# Altium schematic symbol library kmilo17pet-NSC_MiscPower.SchLib: 1552 symbols (part 15 of 43)
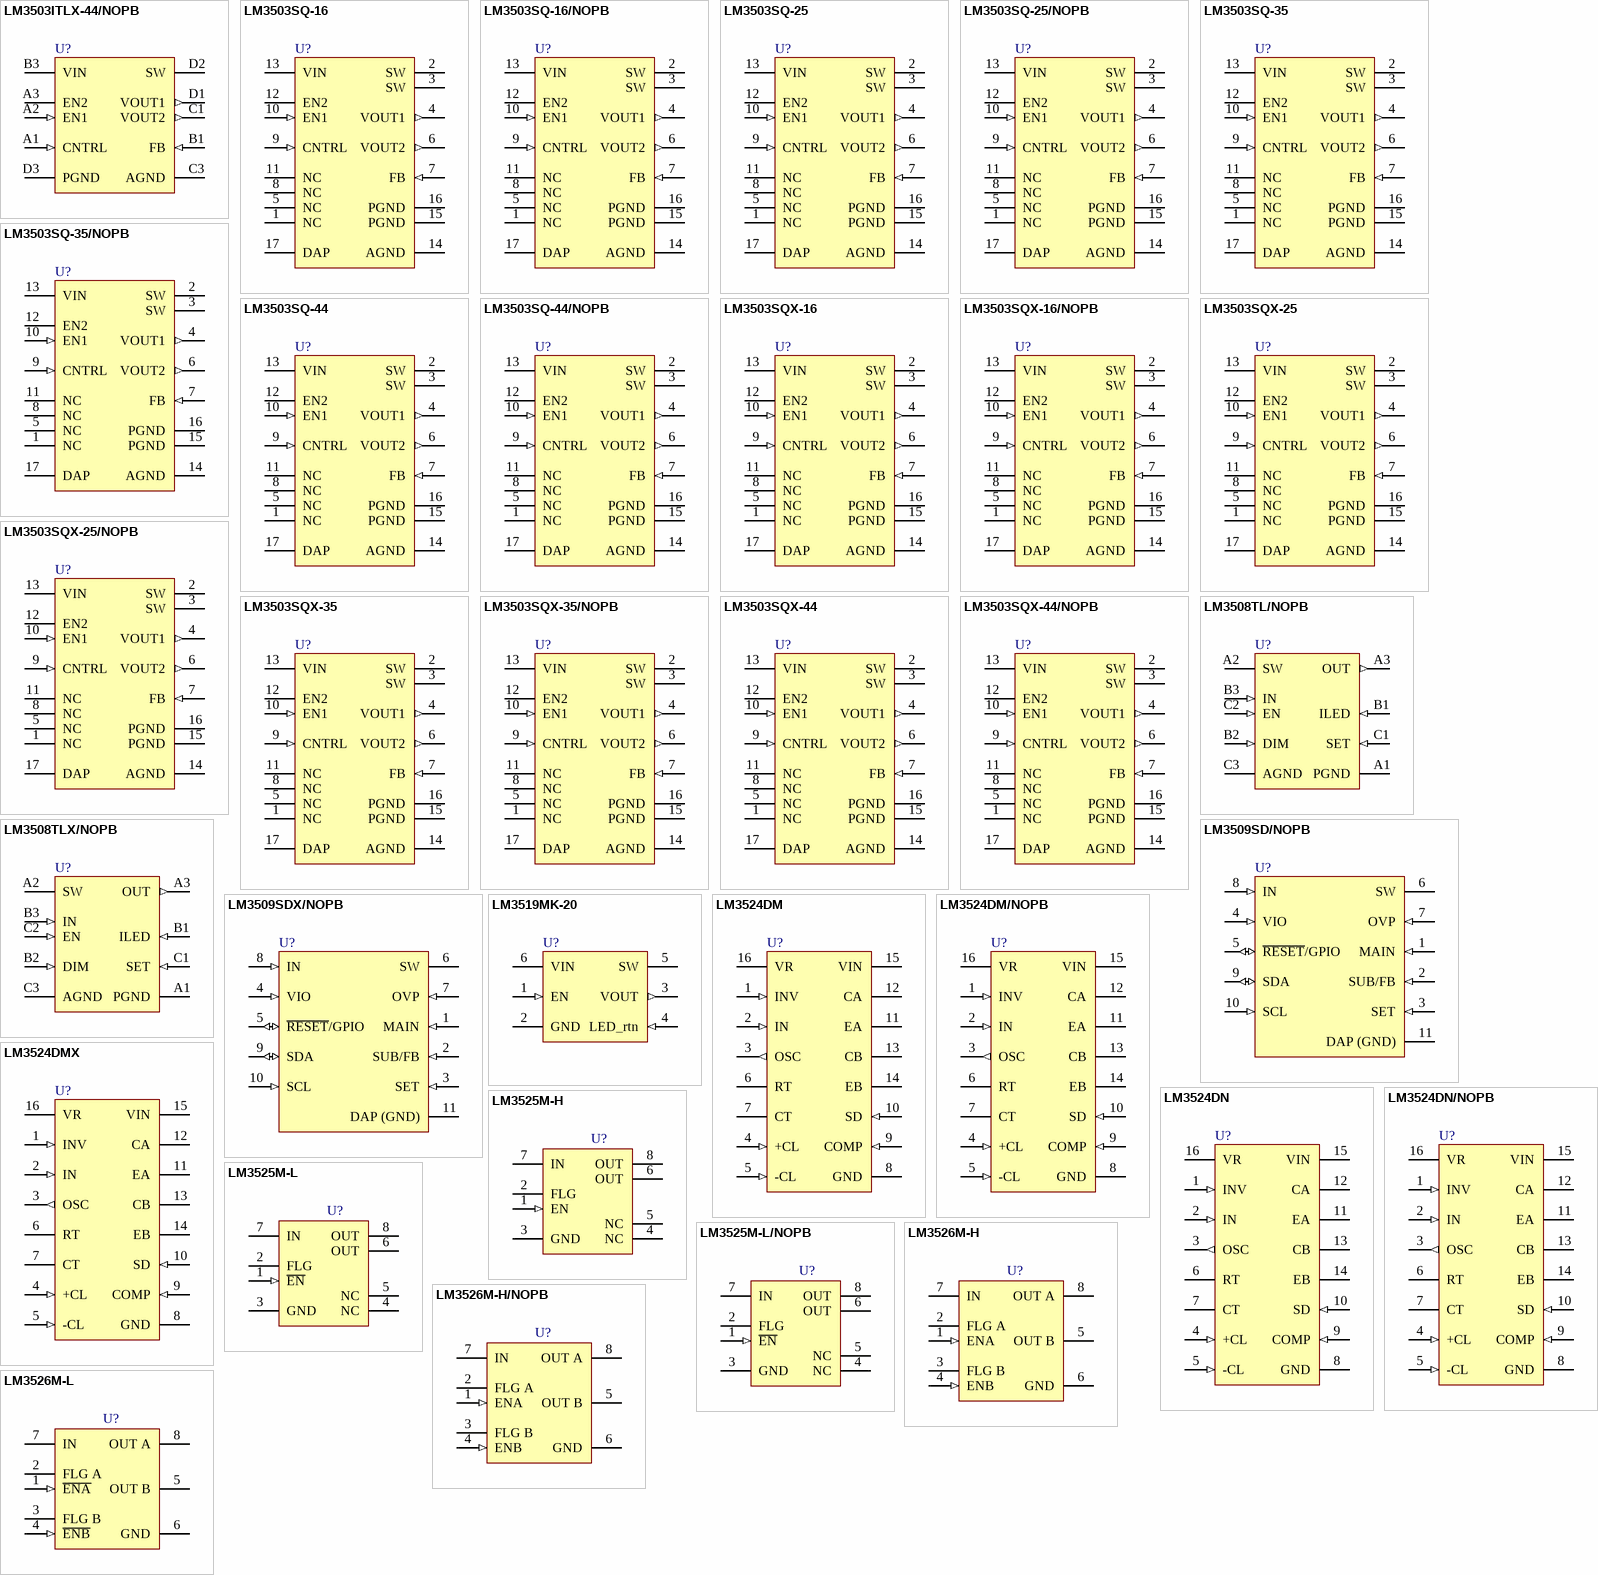
[diagram p71: symbols LM3503ITLX-44/NOPB to LM3526M-L]

## LM3503SQ-35/NOPB
designator U?
Dual-Display Constant Current LED Driver with Analog Brightness Control, 16-pin LLP, Pb-Free; PartNumber: LM3503SQ-35/NOPB; Manufacturer: National Semiconductor; PackageTopMarking: NS*UZXYTT*L00047B; PowerWise: Y; CompType: MiscPower; DatasheetVersion: Aug-2006; PackageVersion: revA, Oct-2003; PackageReference: SQA16A; PackageDescription: LLP, Plastic, Quad, 4 x 4 x 0.8mm Body, 16 Lead, 0.5mm Pitch, No Pullback; RoHS: Y; PinCount: 16; High-Reliability: Y; ComponentLink1Description: Manufacturer URL; ComponentLink1URL: http://www.national.com/; ComponentLink2Description: LM3503 Datasheet; ComponentLink2URL: http://www.national.com/ds/LM/LM3503.pdf; ComponentLink3Description: LM3503 Web Page; ComponentLink3URL: http://www.national.com/pf/LM/LM3503.html; ComponentLink4Description: SQA16A Package Page; ComponentLink4URL: http://www.national.com/packaging/folders/sqa16a.html
footprint SQA16A (QFN, 16-Leads, Body 4x4mm, Pitch 0.5mm, Thermal Pad 2.7x2.7mm, NSC Recommended)
pins: 1 NC, 2 SW (power), 3 SW (power), 4 VOUT1 (out), 5 NC, 6 VOUT2 (out), 7 FB (in), 8 NC, 9 CNTRL (in), 10 EN1 (in), 11 NC, 12 EN2, 13 VIN (power), 14 AGND (power), 15 PGND (power), 16 PGND (power), 17 DAP (power)

## LM3503SQ-44
designator U?
Dual-Display Constant Current LED Driver with Analog Brightness Control, 16-pin LLP; PartNumber: LM3503SQ-44; Manufacturer: National Semiconductor; PackageTopMarking: NS*UZXYTT*L00053B; PowerWise: Y; CompType: MiscPower; DatasheetVersion: Aug-2006; PackageVersion: revA, Oct-2003; PackageReference: SQA16A; PackageDescription: LLP, Plastic, Quad, 4 x 4 x 0.8mm Body, 16 Lead, 0.5mm Pitch, No Pullback; RoHS: N; PinCount: 16; High-Reliability: Y; ComponentLink1Description: Manufacturer URL; ComponentLink1URL: http://www.national.com/; ComponentLink2Description: LM3503 Datasheet; ComponentLink2URL: http://www.national.com/ds/LM/LM3503.pdf; ComponentLink3Description: LM3503 Web Page; ComponentLink3URL: http://www.national.com/pf/LM/LM3503.html; ComponentLink4Description: SQA16A Package Page; ComponentLink4URL: http://www.national.com/packaging/folders/sqa16a.html
footprint SQA16A (QFN, 16-Leads, Body 4x4mm, Pitch 0.5mm, Thermal Pad 2.7x2.7mm, NSC Recommended)
pins: 1 NC, 2 SW (power), 3 SW (power), 4 VOUT1 (out), 5 NC, 6 VOUT2 (out), 7 FB (in), 8 NC, 9 CNTRL (in), 10 EN1 (in), 11 NC, 12 EN2, 13 VIN (power), 14 AGND (power), 15 PGND (power), 16 PGND (power), 17 DAP (power)

## LM3503SQ-44/NOPB
designator U?
Dual-Display Constant Current LED Driver with Analog Brightness Control, 16-pin LLP, Pb-Free; PartNumber: LM3503SQ-44/NOPB; Manufacturer: National Semiconductor; PackageTopMarking: NS*UZXYTT*L00053B; PowerWise: Y; CompType: MiscPower; DatasheetVersion: Aug-2006; PackageVersion: revA, Oct-2003; PackageReference: SQA16A; PackageDescription: LLP, Plastic, Quad, 4 x 4 x 0.8mm Body, 16 Lead, 0.5mm Pitch, No Pullback; RoHS: Y; PinCount: 16; High-Reliability: Y; ComponentLink1Description: Manufacturer URL; ComponentLink1URL: http://www.national.com/; ComponentLink2Description: LM3503 Datasheet; ComponentLink2URL: http://www.national.com/ds/LM/LM3503.pdf; ComponentLink3Description: LM3503 Web Page; ComponentLink3URL: http://www.national.com/pf/LM/LM3503.html; ComponentLink4Description: SQA16A Package Page; ComponentLink4URL: http://www.national.com/packaging/folders/sqa16a.html
footprint SQA16A (QFN, 16-Leads, Body 4x4mm, Pitch 0.5mm, Thermal Pad 2.7x2.7mm, NSC Recommended)
pins: 1 NC, 2 SW (power), 3 SW (power), 4 VOUT1 (out), 5 NC, 6 VOUT2 (out), 7 FB (in), 8 NC, 9 CNTRL (in), 10 EN1 (in), 11 NC, 12 EN2, 13 VIN (power), 14 AGND (power), 15 PGND (power), 16 PGND (power), 17 DAP (power)

## LM3503SQX-16
designator U?
Dual-Display Constant Current LED Driver with Analog Brightness Control, 16-pin LLP; PartNumber: LM3503SQX-16; Manufacturer: National Semiconductor; PackageTopMarking: NS*UZXYTT*L00045B; PowerWise: Y; CompType: MiscPower; DatasheetVersion: Aug-2006; PackageVersion: revA, Oct-2003; PackageReference: SQA16A; PackageDescription: LLP, Plastic, Quad, 4 x 4 x 0.8mm Body, 16 Lead, 0.5mm Pitch, No Pullback; RoHS: N; PinCount: 16; High-Reliability: Y; ComponentLink1Description: Manufacturer URL; ComponentLink1URL: http://www.national.com/; ComponentLink2Description: LM3503 Datasheet; ComponentLink2URL: http://www.national.com/ds/LM/LM3503.pdf; ComponentLink3Description: LM3503 Web Page; ComponentLink3URL: http://www.national.com/pf/LM/LM3503.html; ComponentLink4Description: SQA16A Package Page; ComponentLink4URL: http://www.national.com/packaging/folders/sqa16a.html
footprint SQA16A (QFN, 16-Leads, Body 4x4mm, Pitch 0.5mm, Thermal Pad 2.7x2.7mm, NSC Recommended)
pins: 1 NC, 2 SW (power), 3 SW (power), 4 VOUT1 (out), 5 NC, 6 VOUT2 (out), 7 FB (in), 8 NC, 9 CNTRL (in), 10 EN1 (in), 11 NC, 12 EN2, 13 VIN (power), 14 AGND (power), 15 PGND (power), 16 PGND (power), 17 DAP (power)

## LM3503SQX-16/NOPB
designator U?
Dual-Display Constant Current LED Driver with Analog Brightness Control, 16-pin LLP, Pb-Free; PartNumber: LM3503SQX-16/NOPB; Manufacturer: National Semiconductor; PackageTopMarking: NS*UZXYTT*L00045B; PowerWise: Y; CompType: MiscPower; DatasheetVersion: Aug-2006; PackageVersion: revA, Oct-2003; PackageReference: SQA16A; PackageDescription: LLP, Plastic, Quad, 4 x 4 x 0.8mm Body, 16 Lead, 0.5mm Pitch, No Pullback; RoHS: Y; PinCount: 16; High-Reliability: Y; ComponentLink1Description: Manufacturer URL; ComponentLink1URL: http://www.national.com/; ComponentLink2Description: LM3503 Datasheet; ComponentLink2URL: http://www.national.com/ds/LM/LM3503.pdf; ComponentLink3Description: LM3503 Web Page; ComponentLink3URL: http://www.national.com/pf/LM/LM3503.html; ComponentLink4Description: SQA16A Package Page; ComponentLink4URL: http://www.national.com/packaging/folders/sqa16a.html
footprint SQA16A (QFN, 16-Leads, Body 4x4mm, Pitch 0.5mm, Thermal Pad 2.7x2.7mm, NSC Recommended)
pins: 1 NC, 2 SW (power), 3 SW (power), 4 VOUT1 (out), 5 NC, 6 VOUT2 (out), 7 FB (in), 8 NC, 9 CNTRL (in), 10 EN1 (in), 11 NC, 12 EN2, 13 VIN (power), 14 AGND (power), 15 PGND (power), 16 PGND (power), 17 DAP (power)

## LM3503SQX-25
designator U?
Dual-Display Constant Current LED Driver with Analog Brightness Control, 16-pin LLP; PartNumber: LM3503SQX-25; Manufacturer: National Semiconductor; PackageTopMarking: NS*UZXYTT*L00046B; PowerWise: Y; CompType: MiscPower; DatasheetVersion: Aug-2006; PackageVersion: revA, Oct-2003; PackageReference: SQA16A; PackageDescription: LLP, Plastic, Quad, 4 x 4 x 0.8mm Body, 16 Lead, 0.5mm Pitch, No Pullback; RoHS: N; PinCount: 16; High-Reliability: Y; ComponentLink1Description: Manufacturer URL; ComponentLink1URL: http://www.national.com/; ComponentLink2Description: LM3503 Datasheet; ComponentLink2URL: http://www.national.com/ds/LM/LM3503.pdf; ComponentLink3Description: LM3503 Web Page; ComponentLink3URL: http://www.national.com/pf/LM/LM3503.html; ComponentLink4Description: SQA16A Package Page; ComponentLink4URL: http://www.national.com/packaging/folders/sqa16a.html
footprint SQA16A (QFN, 16-Leads, Body 4x4mm, Pitch 0.5mm, Thermal Pad 2.7x2.7mm, NSC Recommended)
pins: 1 NC, 2 SW (power), 3 SW (power), 4 VOUT1 (out), 5 NC, 6 VOUT2 (out), 7 FB (in), 8 NC, 9 CNTRL (in), 10 EN1 (in), 11 NC, 12 EN2, 13 VIN (power), 14 AGND (power), 15 PGND (power), 16 PGND (power), 17 DAP (power)

## LM3503SQX-25/NOPB
designator U?
Dual-Display Constant Current LED Driver with Analog Brightness Control, 16-pin LLP, Pb-Free; PartNumber: LM3503SQX-25/NOPB; Manufacturer: National Semiconductor; PackageTopMarking: NS*UZXYTT*L00046B; PowerWise: Y; CompType: MiscPower; DatasheetVersion: Aug-2006; PackageVersion: revA, Oct-2003; PackageReference: SQA16A; PackageDescription: LLP, Plastic, Quad, 4 x 4 x 0.8mm Body, 16 Lead, 0.5mm Pitch, No Pullback; RoHS: Y; PinCount: 16; High-Reliability: Y; ComponentLink1Description: Manufacturer URL; ComponentLink1URL: http://www.national.com/; ComponentLink2Description: LM3503 Datasheet; ComponentLink2URL: http://www.national.com/ds/LM/LM3503.pdf; ComponentLink3Description: LM3503 Web Page; ComponentLink3URL: http://www.national.com/pf/LM/LM3503.html; ComponentLink4Description: SQA16A Package Page; ComponentLink4URL: http://www.national.com/packaging/folders/sqa16a.html
footprint SQA16A (QFN, 16-Leads, Body 4x4mm, Pitch 0.5mm, Thermal Pad 2.7x2.7mm, NSC Recommended)
pins: 1 NC, 2 SW (power), 3 SW (power), 4 VOUT1 (out), 5 NC, 6 VOUT2 (out), 7 FB (in), 8 NC, 9 CNTRL (in), 10 EN1 (in), 11 NC, 12 EN2, 13 VIN (power), 14 AGND (power), 15 PGND (power), 16 PGND (power), 17 DAP (power)

## LM3503SQX-35
designator U?
Dual-Display Constant Current LED Driver with Analog Brightness Control, 16-pin LLP; PartNumber: LM3503SQX-35; Manufacturer: National Semiconductor; PackageTopMarking: NS*UZXYTT*L00047B; PowerWise: Y; CompType: MiscPower; DatasheetVersion: Aug-2006; PackageVersion: revA, Oct-2003; PackageReference: SQA16A; PackageDescription: LLP, Plastic, Quad, 4 x 4 x 0.8mm Body, 16 Lead, 0.5mm Pitch, No Pullback; RoHS: N; PinCount: 16; High-Reliability: Y; ComponentLink1Description: Manufacturer URL; ComponentLink1URL: http://www.national.com/; ComponentLink2Description: LM3503 Datasheet; ComponentLink2URL: http://www.national.com/ds/LM/LM3503.pdf; ComponentLink3Description: LM3503 Web Page; ComponentLink3URL: http://www.national.com/pf/LM/LM3503.html; ComponentLink4Description: SQA16A Package Page; ComponentLink4URL: http://www.national.com/packaging/folders/sqa16a.html
footprint SQA16A (QFN, 16-Leads, Body 4x4mm, Pitch 0.5mm, Thermal Pad 2.7x2.7mm, NSC Recommended)
pins: 1 NC, 2 SW (power), 3 SW (power), 4 VOUT1 (out), 5 NC, 6 VOUT2 (out), 7 FB (in), 8 NC, 9 CNTRL (in), 10 EN1 (in), 11 NC, 12 EN2, 13 VIN (power), 14 AGND (power), 15 PGND (power), 16 PGND (power), 17 DAP (power)

## LM3503SQX-35/NOPB
designator U?
Dual-Display Constant Current LED Driver with Analog Brightness Control, 16-pin LLP, Pb-Free; PartNumber: LM3503SQX-35/NOPB; Manufacturer: National Semiconductor; PackageTopMarking: NS*UZXYTT*L00047B; PowerWise: Y; CompType: MiscPower; DatasheetVersion: Aug-2006; PackageVersion: revA, Oct-2003; PackageReference: SQA16A; PackageDescription: LLP, Plastic, Quad, 4 x 4 x 0.8mm Body, 16 Lead, 0.5mm Pitch, No Pullback; RoHS: Y; PinCount: 16; High-Reliability: Y; ComponentLink1Description: Manufacturer URL; ComponentLink1URL: http://www.national.com/; ComponentLink2Description: LM3503 Datasheet; ComponentLink2URL: http://www.national.com/ds/LM/LM3503.pdf; ComponentLink3Description: LM3503 Web Page; ComponentLink3URL: http://www.national.com/pf/LM/LM3503.html; ComponentLink4Description: SQA16A Package Page; ComponentLink4URL: http://www.national.com/packaging/folders/sqa16a.html
footprint SQA16A (QFN, 16-Leads, Body 4x4mm, Pitch 0.5mm, Thermal Pad 2.7x2.7mm, NSC Recommended)
pins: 1 NC, 2 SW (power), 3 SW (power), 4 VOUT1 (out), 5 NC, 6 VOUT2 (out), 7 FB (in), 8 NC, 9 CNTRL (in), 10 EN1 (in), 11 NC, 12 EN2, 13 VIN (power), 14 AGND (power), 15 PGND (power), 16 PGND (power), 17 DAP (power)

## LM3503SQX-44
designator U?
Dual-Display Constant Current LED Driver with Analog Brightness Control, 16-pin LLP; PartNumber: LM3503SQX-44; Manufacturer: National Semiconductor; PackageTopMarking: NS*UZXYTT*L00053B; PowerWise: Y; CompType: MiscPower; DatasheetVersion: Aug-2006; PackageVersion: revA, Oct-2003; PackageReference: SQA16A; PackageDescription: LLP, Plastic, Quad, 4 x 4 x 0.8mm Body, 16 Lead, 0.5mm Pitch, No Pullback; RoHS: N; PinCount: 16; High-Reliability: Y; ComponentLink1Description: Manufacturer URL; ComponentLink1URL: http://www.national.com/; ComponentLink2Description: LM3503 Datasheet; ComponentLink2URL: http://www.national.com/ds/LM/LM3503.pdf; ComponentLink3Description: LM3503 Web Page; ComponentLink3URL: http://www.national.com/pf/LM/LM3503.html; ComponentLink4Description: SQA16A Package Page; ComponentLink4URL: http://www.national.com/packaging/folders/sqa16a.html
footprint SQA16A (QFN, 16-Leads, Body 4x4mm, Pitch 0.5mm, Thermal Pad 2.7x2.7mm, NSC Recommended)
pins: 1 NC, 2 SW (power), 3 SW (power), 4 VOUT1 (out), 5 NC, 6 VOUT2 (out), 7 FB (in), 8 NC, 9 CNTRL (in), 10 EN1 (in), 11 NC, 12 EN2, 13 VIN (power), 14 AGND (power), 15 PGND (power), 16 PGND (power), 17 DAP (power)

## LM3503SQX-44/NOPB
designator U?
Dual-Display Constant Current LED Driver with Analog Brightness Control, 16-pin LLP, Pb-Free; PartNumber: LM3503SQX-44/NOPB; Manufacturer: National Semiconductor; PackageTopMarking: NS*UZXYTT*L00053B; PowerWise: Y; CompType: MiscPower; DatasheetVersion: Aug-2006; PackageVersion: revA, Oct-2003; PackageReference: SQA16A; PackageDescription: LLP, Plastic, Quad, 4 x 4 x 0.8mm Body, 16 Lead, 0.5mm Pitch, No Pullback; RoHS: Y; PinCount: 16; High-Reliability: Y; ComponentLink1Description: Manufacturer URL; ComponentLink1URL: http://www.national.com/; ComponentLink2Description: LM3503 Datasheet; ComponentLink2URL: http://www.national.com/ds/LM/LM3503.pdf; ComponentLink3Description: LM3503 Web Page; ComponentLink3URL: http://www.national.com/pf/LM/LM3503.html; ComponentLink4Description: SQA16A Package Page; ComponentLink4URL: http://www.national.com/packaging/folders/sqa16a.html
footprint SQA16A (QFN, 16-Leads, Body 4x4mm, Pitch 0.5mm, Thermal Pad 2.7x2.7mm, NSC Recommended)
pins: 1 NC, 2 SW (power), 3 SW (power), 4 VOUT1 (out), 5 NC, 6 VOUT2 (out), 7 FB (in), 8 NC, 9 CNTRL (in), 10 EN1 (in), 11 NC, 12 EN2, 13 VIN (power), 14 AGND (power), 15 PGND (power), 16 PGND (power), 17 DAP (power)

## LM3508TL/NOPB
designator U?
Synchronous Magnetic Constant Current White LED Driver, 9-pin Micro SMD, Pb-Free; PartNumber: LM3508TL/NOPB; Manufacturer: National Semiconductor; PackageTopMarking: XVD*I 31; PowerWise: Y; CompType: MiscPower; DatasheetVersion: Mar-2008; PackageVersion: revC, Jan-2004; PackageReference: TLA09AAA; PackageDescription: Thin Micro SMD, 9 Bump (Large), 0.5mm Pitch; RoHS: Y; PinCount: 9; High-Reliability: Y; Code_JEDEC: MO-211-DD; ComponentLink1Description: Manufacturer URL; ComponentLink1URL: http://www.national.com/; ComponentLink2Description: LM3508 Datasheet; ComponentLink2URL: http://www.national.com/ds/LM/LM3508.pdf; ComponentLink3Description: LM3508 Web Page; ComponentLink3URL: http://www.national.com/pf/LM/LM3508.html; ComponentLink4Description: TLA09AAA Package Page; ComponentLink4URL: http://www.national.com/packaging/folders/tla09aaa.html
footprint TLA09AAA (Micro SMD, 9-Leads, Body 1.52x1.52mm, Pitch 0.5mm, NSC Recommended)
pins: A1 PGND (power), A2 SW (power), A3 OUT (out), B1 ILED (in), B2 DIM (in), B3 IN (in), C1 SET (in), C2 EN (in), C3 AGND (power)

## LM3508TLX/NOPB
designator U?
Synchronous Magnetic Constant Current White LED Driver, 9-pin Micro SMD, Pb-Free; PartNumber: LM3508TLX/NOPB; Manufacturer: National Semiconductor; PackageTopMarking: XVD*I 31; PowerWise: Y; CompType: MiscPower; DatasheetVersion: Mar-2008; PackageVersion: revC, Jan-2004; PackageReference: TLA09AAA; PackageDescription: Thin Micro SMD, 9 Bump (Large), 0.5mm Pitch; RoHS: Y; PinCount: 9; High-Reliability: Y; Code_JEDEC: MO-211-DD; ComponentLink1Description: Manufacturer URL; ComponentLink1URL: http://www.national.com/; ComponentLink2Description: LM3508 Datasheet; ComponentLink2URL: http://www.national.com/ds/LM/LM3508.pdf; ComponentLink3Description: LM3508 Web Page; ComponentLink3URL: http://www.national.com/pf/LM/LM3508.html; ComponentLink4Description: TLA09AAA Package Page; ComponentLink4URL: http://www.national.com/packaging/folders/tla09aaa.html
footprint TLA09AAA (Micro SMD, 9-Leads, Body 1.52x1.52mm, Pitch 0.5mm, NSC Recommended)
pins: A1 PGND (power), A2 SW (power), A3 OUT (out), B1 ILED (in), B2 DIM (in), B3 IN (in), C1 SET (in), C2 EN (in), C3 AGND (power)

## LM3509SD/NOPB
designator U?
High Efficiency Boost for White LED's and/or OLED Displays with Dual Current Sinks and IC Compatible Brightness Control, 10-pin LLP, Pb-Free; PartNumber: LM3509SD/NOPB; Manufacturer: National Semiconductor; PackageTopMarking: ZXYTT*L3509; PowerWise: Y; CompType: MiscPower; DatasheetVersion: Mar-2008; PackageVersion: revA, Oct-2003; PackageReference: SDA10A; PackageDescription: LLP, Plastic, Dual, 3 x 3 x 0.8mm Body, 10 Lead, 0.5mm Pitch, No Pullback; RoHS: Y; PinCount: 10; High-Reliability: Y; ComponentLink1Description: Manufacturer URL; ComponentLink1URL: http://www.national.com/; ComponentLink2Description: LM3509 Datasheet; ComponentLink2URL: http://www.national.com/ds/LM/LM3509.pdf; ComponentLink3Description: LM3509 Web Page; ComponentLink3URL: http://www.national.com/pf/LM/LM3509.html; ComponentLink4Description: SDA10A Package Page; ComponentLink4URL: http://www.national.com/packaging/folders/sda10a.html
footprint SDA10A (SON, 10-Leads, Body 3x3 mm, Pitch 0.5mm, NSC Recommended)
pins: 1 MAIN (in), 2 SUB/FB (in), 3 SET (in), 4 VIO (in), 5 ~{RESET}/GPIO (io), 6 SW (power), 7 OVP (in), 8 IN (in), 9 SDA (io), 10 SCL (in), 11 DAP (GND) (power)

## LM3509SDX/NOPB
designator U?
High Efficiency Boost for White LED's and/or OLED Displays with Dual Current Sinks and IC Compatible Brightness Control, 10-pin LLP, Pb-Free; PartNumber: LM3509SDX/NOPB; Manufacturer: National Semiconductor; PackageTopMarking: ZXYTT*L3509; PowerWise: Y; CompType: MiscPower; DatasheetVersion: Mar-2008; PackageVersion: revA, Oct-2003; PackageReference: SDA10A; PackageDescription: LLP, Plastic, Dual, 3 x 3 x 0.8mm Body, 10 Lead, 0.5mm Pitch, No Pullback; RoHS: Y; PinCount: 10; High-Reliability: Y; ComponentLink1Description: Manufacturer URL; ComponentLink1URL: http://www.national.com/; ComponentLink2Description: LM3509 Datasheet; ComponentLink2URL: http://www.national.com/ds/LM/LM3509.pdf; ComponentLink3Description: LM3509 Web Page; ComponentLink3URL: http://www.national.com/pf/LM/LM3509.html; ComponentLink4Description: SDA10A Package Page; ComponentLink4URL: http://www.national.com/packaging/folders/sda10a.html
footprint SDA10A (SON, 10-Leads, Body 3x3 mm, Pitch 0.5mm, NSC Recommended)
pins: 1 MAIN (in), 2 SUB/FB (in), 3 SET (in), 4 VIO (in), 5 ~{RESET}/GPIO (io), 6 SW (power), 7 OVP (in), 8 IN (in), 9 SDA (io), 10 SCL (in), 11 DAP (GND) (power)

## LM3519MK-20
designator U?
High Frequency Boost White LED Driver with High-Speed PWM Brightness Control, 6-pin Tiny SOT23; PartNumber: LM3519MK-20; Manufacturer: National Semiconductor; PackageTopMarking: D52B*XTT; PowerWise: Y; CompType: MiscPower; DatasheetVersion: Sep-2005; PackageVersion: revE, Nov-2008; PackageReference: MK06A; PackageDescription: Molded TSOT, 2.97 x 1.65 x 0.87mm Body, 6 Lead, 0.95mm Pitch; RoHS: N; PinCount: 6; High-Reliability: Y; Code_JEDEC: MO-193-AA; Code_IPC: SOT26A-6; ComponentLink1Description: Manufacturer URL; ComponentLink1URL: http://www.national.com/; ComponentLink2Description: LM3519 Datasheet; ComponentLink2URL: http://www.national.com/ds/LM/LM3519.pdf; ComponentLink3Description: LM3519 Web Page; ComponentLink3URL: http://www.national.com/pf/LM/LM3519.html; ComponentLink4Description: MK06A Package Page; ComponentLink4URL: http://www.national.com/packaging/folders/mk06a.html
footprint MK06A_N (SOT23, 6-Leads, Body 3.0x1.7mm, Pitch 0.95mm, Lead Span 2.9mm, IPC Medium Density)
footprint MK06A_L (SOT23, 6-Leads, Body 3.0x1.7mm, Pitch 0.95mm, Lead Span 2.9mm, IPC High Density)
footprint MK06A_M (SOT23, 6-Leads, Body 3.0x1.7mm, Pitch 0.95mm, Lead Span 2.9mm, IPC Low Density)
pins: 1 EN (in), 2 GND (power), 3 VOUT (out), 4 LED_rtn (in), 5 SW (power), 6 VIN (power)

## LM3524DM
designator U?
Regulating Pulse Width Modulator, 16-pin Narrow SOIC; PartNumber: LM3524DM; Manufacturer: National Semiconductor; PackageTopMarking: NSUZXYTTE#*LM3524DM; PowerWise: N; CompType: MiscPower; High-Reliability: Y; DatasheetVersion: May-2008; PackageVersion: revJ, Aug-1995; PackageReference: M16A; PackageDescription: Molded Package, SO, .150in Wide, 16 Lead; RoHS: N; PinCount: 16; Code_JEDEC: MS-012-AC; Code_IPC: SOIC127P600-16; ComponentLink1Description: Manufacturer URL; ComponentLink1URL: http://www.national.com/; ComponentLink2Description: LM3524D Datasheet; ComponentLink2URL: http://www.national.com/ds/LM/LM3524D.pdf; ComponentLink3Description: LM3524D Web Page; ComponentLink3URL: http://www.national.com/pf/LM/LM3524D.html; ComponentLink4Description: M16A Package Page; ComponentLink4URL: http://www.national.com/packaging/folders/m16a.html
footprint M16A_N (SOIC, 16-Leads, Body 9.9x3.9mm, Pitch 1.27mm, IPC Medium Density)
footprint M16A_L (SOIC, 16-Leads, Body 9.9x3.9mm, Pitch 1.27mm, IPC High Density)
footprint M16A_M (SOIC, 16-Leads, Body 9.9x3.9mm, Pitch 1.27mm, IPC Low Density)
pins: 1 INV (in), 2 IN (in), 3 OSC (out), 4 +CL (in), 5 -CL (in), 6 RT, 7 CT, 8 GND (power), 9 COMP (in), 10 SD (in), 11 EA, 12 CA, 13 CB, 14 EB, 15 VIN (power), 16 VR (power)

## LM3524DM/NOPB
designator U?
Regulating Pulse Width Modulator, 16-pin Narrow SOIC, Pb-Free; PartNumber: LM3524DM/NOPB; Manufacturer: National Semiconductor; PackageTopMarking: NSUZXYTTE#*LM3524DM; PowerWise: N; CompType: MiscPower; High-Reliability: Y; DatasheetVersion: May-2008; PackageVersion: revJ, Aug-1995; PackageReference: M16A; PackageDescription: Molded Package, SO, .150in Wide, 16 Lead; RoHS: Y; PinCount: 16; Code_JEDEC: MS-012-AC; Code_IPC: SOIC127P600-16; ComponentLink1Description: Manufacturer URL; ComponentLink1URL: http://www.national.com/; ComponentLink2Description: LM3524D Datasheet; ComponentLink2URL: http://www.national.com/ds/LM/LM3524D.pdf; ComponentLink3Description: LM3524D Web Page; ComponentLink3URL: http://www.national.com/pf/LM/LM3524D.html; ComponentLink4Description: M16A Package Page; ComponentLink4URL: http://www.national.com/packaging/folders/m16a.html
footprint M16A_N (SOIC, 16-Leads, Body 9.9x3.9mm, Pitch 1.27mm, IPC Medium Density)
footprint M16A_L (SOIC, 16-Leads, Body 9.9x3.9mm, Pitch 1.27mm, IPC High Density)
footprint M16A_M (SOIC, 16-Leads, Body 9.9x3.9mm, Pitch 1.27mm, IPC Low Density)
pins: 1 INV (in), 2 IN (in), 3 OSC (out), 4 +CL (in), 5 -CL (in), 6 RT, 7 CT, 8 GND (power), 9 COMP (in), 10 SD (in), 11 EA, 12 CA, 13 CB, 14 EB, 15 VIN (power), 16 VR (power)

## LM3524DMX
designator U?
Regulating Pulse Width Modulator, 16-pin Narrow SOIC; PartNumber: LM3524DMX; Manufacturer: National Semiconductor; PackageTopMarking: NSUZXYTTE#*LM3524DM; PowerWise: N; CompType: MiscPower; High-Reliability: Y; DatasheetVersion: May-2008; PackageVersion: revJ, Aug-1995; PackageReference: M16A; PackageDescription: Molded Package, SO, .150in Wide, 16 Lead; RoHS: N; PinCount: 16; Code_JEDEC: MS-012-AC; Code_IPC: SOIC127P600-16; ComponentLink1Description: Manufacturer URL; ComponentLink1URL: http://www.national.com/; ComponentLink2Description: LM3524D Datasheet; ComponentLink2URL: http://www.national.com/ds/LM/LM3524D.pdf; ComponentLink3Description: LM3524D Web Page; ComponentLink3URL: http://www.national.com/pf/LM/LM3524D.html; ComponentLink4Description: M16A Package Page; ComponentLink4URL: http://www.national.com/packaging/folders/m16a.html
footprint M16A_N (SOIC, 16-Leads, Body 9.9x3.9mm, Pitch 1.27mm, IPC Medium Density)
footprint M16A_L (SOIC, 16-Leads, Body 9.9x3.9mm, Pitch 1.27mm, IPC High Density)
footprint M16A_M (SOIC, 16-Leads, Body 9.9x3.9mm, Pitch 1.27mm, IPC Low Density)
pins: 1 INV (in), 2 IN (in), 3 OSC (out), 4 +CL (in), 5 -CL (in), 6 RT, 7 CT, 8 GND (power), 9 COMP (in), 10 SD (in), 11 EA, 12 CA, 13 CB, 14 EB, 15 VIN (power), 16 VR (power)

## LM3524DN
designator U?
Regulating Pulse Width Modulator, 16-pin MDIP; PartNumber: LM3524DN; Manufacturer: National Semiconductor; PackageTopMarking: NSUZXYYTTE#*LM3524DN; PowerWise: N; CompType: MiscPower; High-Reliability: Y; DatasheetVersion: May-2008; PackageVersion: revG, May-2006; PackageReference: N16E; PackageDescription: MDIP, .750 x .250 x .130in, 16 Lead, .100in Pitch; RoHS: N; PinCount: 16; Code_JEDEC: MS-001-BB; ComponentLink1Description: Manufacturer URL; ComponentLink1URL: http://www.national.com/; ComponentLink2Description: LM3524D Datasheet; ComponentLink2URL: http://www.national.com/ds/LM/LM3524D.pdf; ComponentLink3Description: LM3524D Web Page; ComponentLink3URL: http://www.national.com/pf/LM/LM3524D.html; ComponentLink4Description: N16E Package Page; ComponentLink4URL: http://www.national.com/packaging/folders/n16e.html
footprint N16E (DIP, 16-Leads, Row Spacing 7.62mm, Pitch 2.54mm, Body 19.3x6.35mm)
pins: 1 INV (in), 2 IN (in), 3 OSC (out), 4 +CL (in), 5 -CL (in), 6 RT, 7 CT, 8 GND (power), 9 COMP (in), 10 SD (in), 11 EA, 12 CA, 13 CB, 14 EB, 15 VIN (power), 16 VR (power)

## LM3524DN/NOPB
designator U?
Regulating Pulse Width Modulator, 16-pin MDIP, Pb-Free; PartNumber: LM3524DN/NOPB; Manufacturer: National Semiconductor; PackageTopMarking: NSUZXYYTTE#*LM3524DN; PowerWise: N; CompType: MiscPower; High-Reliability: Y; DatasheetVersion: May-2008; PackageVersion: revG, May-2006; PackageReference: N16E; PackageDescription: MDIP, .750 x .250 x .130in, 16 Lead, .100in Pitch; RoHS: Y; PinCount: 16; Code_JEDEC: MS-001-BB; ComponentLink1Description: Manufacturer URL; ComponentLink1URL: http://www.national.com/; ComponentLink2Description: LM3524D Datasheet; ComponentLink2URL: http://www.national.com/ds/LM/LM3524D.pdf; ComponentLink3Description: LM3524D Web Page; ComponentLink3URL: http://www.national.com/pf/LM/LM3524D.html; ComponentLink4Description: N16E Package Page; ComponentLink4URL: http://www.national.com/packaging/folders/n16e.html
footprint N16E (DIP, 16-Leads, Row Spacing 7.62mm, Pitch 2.54mm, Body 19.3x6.35mm)
pins: 1 INV (in), 2 IN (in), 3 OSC (out), 4 +CL (in), 5 -CL (in), 6 RT, 7 CT, 8 GND (power), 9 COMP (in), 10 SD (in), 11 EA, 12 CA, 13 CB, 14 EB, 15 VIN (power), 16 VR (power)

## LM3525M-H
designator U?
Single Port USB Power Switch and Over-Current Protection, 8-pin Narrow SOIC; PartNumber: LM3525M-H; Manufacturer: National Semiconductor; PackageTopMarking: NSZXTT*3525*M-H; PowerWise: N; CompType: MiscPower; High-Reliability: Y; DatasheetVersion: Mar-2005; PackageVersion: revM, May-2009; PackageReference: M08A; PackageDescription: SOIC Narrow, 4.9 x 3.9 x 1.45mm, 8 Lead, 1.27mm Pitch; RoHS: N; PinCount: 8; Code_JEDEC: MS-012-AA; Code_IPC: SOIC127P600-8; ComponentLink1Description: Manufacturer URL; ComponentLink1URL: http://www.national.com/; ComponentLink2Description: LM3525 Datasheet; ComponentLink2URL: http://www.national.com/ds/LM/LM3525.pdf; ComponentLink3Description: LM3525 Web Page; ComponentLink3URL: http://www.national.com/pf/LM/LM3525.html; ComponentLink4Description: M08A Package Page; ComponentLink4URL: http://www.national.com/packaging/folders/m08a.html
footprint M08A_N (SOIC, 8-Leads, Body 4.9x3.9mm, Pitch 1.27mm, IPC Medium Density)
footprint M08A_L (SOIC, 8-Leads, Body 4.9x3.9mm, Pitch 1.27mm, IPC High Density)
footprint M08A_M (SOIC, 8-Leads, Body 4.9x3.9mm, Pitch 1.27mm, IPC Low Density)
pins: 1 EN (in), 2 FLG (oc), 3 GND (power), 4 NC, 5 NC, 6 OUT (power), 7 IN (power), 8 OUT (power)

## LM3525M-L
designator U?
Single Port USB Power Switch and Over-Current Protection, 8-pin Narrow SOIC; PartNumber: LM3525M-L; Manufacturer: National Semiconductor; PackageTopMarking: NSZXTT*3525*M-L; PowerWise: N; CompType: MiscPower; High-Reliability: Y; DatasheetVersion: Mar-2005; PackageVersion: revM, May-2009; PackageReference: M08A; PackageDescription: SOIC Narrow, 4.9 x 3.9 x 1.45mm, 8 Lead, 1.27mm Pitch; RoHS: N; PinCount: 8; Code_JEDEC: MS-012-AA; Code_IPC: SOIC127P600-8; ComponentLink1Description: Manufacturer URL; ComponentLink1URL: http://www.national.com/; ComponentLink2Description: LM3525 Datasheet; ComponentLink2URL: http://www.national.com/ds/LM/LM3525.pdf; ComponentLink3Description: LM3525 Web Page; ComponentLink3URL: http://www.national.com/pf/LM/LM3525.html; ComponentLink4Description: M08A Package Page; ComponentLink4URL: http://www.national.com/packaging/folders/m08a.html
footprint M08A_N (SOIC, 8-Leads, Body 4.9x3.9mm, Pitch 1.27mm, IPC Medium Density)
footprint M08A_L (SOIC, 8-Leads, Body 4.9x3.9mm, Pitch 1.27mm, IPC High Density)
footprint M08A_M (SOIC, 8-Leads, Body 4.9x3.9mm, Pitch 1.27mm, IPC Low Density)
pins: 1 ~{EN} (in), 2 FLG (oc), 3 GND (power), 4 NC, 5 NC, 6 OUT (power), 7 IN (power), 8 OUT (power)

## LM3525M-L/NOPB
designator U?
Single Port USB Power Switch and Over-current Protection, 8-pin Narrow SOIC, Pb-Free; PartNumber: LM3525M-L/NOPB; Manufacturer: National Semiconductor; PackageTopMarking: NSZXTT*3525*M-L; PowerWise: N; CompType: MiscPower; High-Reliability: Y; DatasheetVersion: Mar-2005; PackageVersion: revM, May-2009; PackageReference: M08A; PackageDescription: SOIC Narrow, 4.9 x 3.9 x 1.45mm, 8 Lead, 1.27mm Pitch; RoHS: Y; PinCount: 8; Code_JEDEC: MS-012-AA; Code_IPC: SOIC127P600-8; ComponentLink1Description: Manufacturer URL; ComponentLink1URL: http://www.national.com/; ComponentLink2Description: LM3525 Datasheet; ComponentLink2URL: http://www.national.com/ds/LM/LM3525.pdf; ComponentLink3Description: LM3525 Web Page; ComponentLink3URL: http://www.national.com/pf/LM/LM3525.html; ComponentLink4Description: M08A Package Page; ComponentLink4URL: http://www.national.com/packaging/folders/m08a.html
footprint M08A_N (SOIC, 8-Leads, Body 4.9x3.9mm, Pitch 1.27mm, IPC Medium Density)
footprint M08A_L (SOIC, 8-Leads, Body 4.9x3.9mm, Pitch 1.27mm, IPC High Density)
footprint M08A_M (SOIC, 8-Leads, Body 4.9x3.9mm, Pitch 1.27mm, IPC Low Density)
pins: 1 ~{EN} (in), 2 FLG (oc), 3 GND (power), 4 NC, 5 NC, 6 OUT (power), 7 IN (power), 8 OUT (power)

## LM3526M-H
designator U?
Dual Port USB Power Switch and Over-Current Protection, 8-pin Narrow SOIC; PartNumber: LM3526M-H; Manufacturer: National Semiconductor; PackageTopMarking: NSZXTT*3526*M-H; PowerWise: N; CompType: MiscPower; High-Reliability: Y; DatasheetVersion: Mar-2005; PackageVersion: revM, May-2009; PackageReference: M08A; PackageDescription: SOIC Narrow, 4.9 x 3.9 x 1.45mm, 8 Lead, 1.27mm Pitch; RoHS: N; PinCount: 8; Code_JEDEC: MS-012-AA; Code_IPC: SOIC127P600-8; ComponentLink1Description: Manufacturer URL; ComponentLink1URL: http://www.national.com/; ComponentLink2Description: LM3526 Datasheet; ComponentLink2URL: http://www.national.com/ds/LM/LM3526.pdf; ComponentLink3Description: LM3526 Web Page; ComponentLink3URL: http://www.national.com/pf/LM/LM3526.html; ComponentLink4Description: M08A Package Page; ComponentLink4URL: http://www.national.com/packaging/folders/m08a.html
footprint M08A_N (SOIC, 8-Leads, Body 4.9x3.9mm, Pitch 1.27mm, IPC Medium Density)
footprint M08A_L (SOIC, 8-Leads, Body 4.9x3.9mm, Pitch 1.27mm, IPC High Density)
footprint M08A_M (SOIC, 8-Leads, Body 4.9x3.9mm, Pitch 1.27mm, IPC Low Density)
pins: 1 ENA (in), 2 FLG A (oc), 3 FLG B (oc), 4 ENB (in), 5 OUT B (power), 6 GND (power), 7 IN (power), 8 OUT A (power)

## LM3526M-H/NOPB
designator U?
Dual Port USB Power Switch and Over-current Protection, 8-pin Narrow SOIC, Pb-Free; PartNumber: LM3526M-H/NOPB; Manufacturer: National Semiconductor; PackageTopMarking: NSZXTT*3526*M-H; PowerWise: N; CompType: MiscPower; High-Reliability: Y; DatasheetVersion: Mar-2005; PackageVersion: revM, May-2009; PackageReference: M08A; PackageDescription: SOIC Narrow, 4.9 x 3.9 x 1.45mm, 8 Lead, 1.27mm Pitch; RoHS: Y; PinCount: 8; Code_JEDEC: MS-012-AA; Code_IPC: SOIC127P600-8; ComponentLink1Description: Manufacturer URL; ComponentLink1URL: http://www.national.com/; ComponentLink2Description: LM3526 Datasheet; ComponentLink2URL: http://www.national.com/ds/LM/LM3526.pdf; ComponentLink3Description: LM3526 Web Page; ComponentLink3URL: http://www.national.com/pf/LM/LM3526.html; ComponentLink4Description: M08A Package Page; ComponentLink4URL: http://www.national.com/packaging/folders/m08a.html
footprint M08A_N (SOIC, 8-Leads, Body 4.9x3.9mm, Pitch 1.27mm, IPC Medium Density)
footprint M08A_L (SOIC, 8-Leads, Body 4.9x3.9mm, Pitch 1.27mm, IPC High Density)
footprint M08A_M (SOIC, 8-Leads, Body 4.9x3.9mm, Pitch 1.27mm, IPC Low Density)
pins: 1 ENA (in), 2 FLG A (oc), 3 FLG B (oc), 4 ENB (in), 5 OUT B (power), 6 GND (power), 7 IN (power), 8 OUT A (power)

## LM3526M-L
designator U?
Dual Port USB Power Switch and Over-Current Protection, 8-pin Narrow SOIC; PartNumber: LM3526M-L; Manufacturer: National Semiconductor; PackageTopMarking: NSZXTT*3526*M-L; PowerWise: N; CompType: MiscPower; High-Reliability: Y; DatasheetVersion: Mar-2005; PackageVersion: revM, May-2009; PackageReference: M08A; PackageDescription: SOIC Narrow, 4.9 x 3.9 x 1.45mm, 8 Lead, 1.27mm Pitch; RoHS: N; PinCount: 8; Code_JEDEC: MS-012-AA; Code_IPC: SOIC127P600-8; ComponentLink1Description: Manufacturer URL; ComponentLink1URL: http://www.national.com/; ComponentLink2Description: LM3526 Datasheet; ComponentLink2URL: http://www.national.com/ds/LM/LM3526.pdf; ComponentLink3Description: LM3526 Web Page; ComponentLink3URL: http://www.national.com/pf/LM/LM3526.html; ComponentLink4Description: M08A Package Page; ComponentLink4URL: http://www.national.com/packaging/folders/m08a.html
footprint M08A_N (SOIC, 8-Leads, Body 4.9x3.9mm, Pitch 1.27mm, IPC Medium Density)
footprint M08A_L (SOIC, 8-Leads, Body 4.9x3.9mm, Pitch 1.27mm, IPC High Density)
footprint M08A_M (SOIC, 8-Leads, Body 4.9x3.9mm, Pitch 1.27mm, IPC Low Density)
pins: 1 ~{ENA} (in), 2 FLG A (oc), 3 FLG B (oc), 4 ~{ENB} (in), 5 OUT B (power), 6 GND (power), 7 IN (power), 8 OUT A (power)

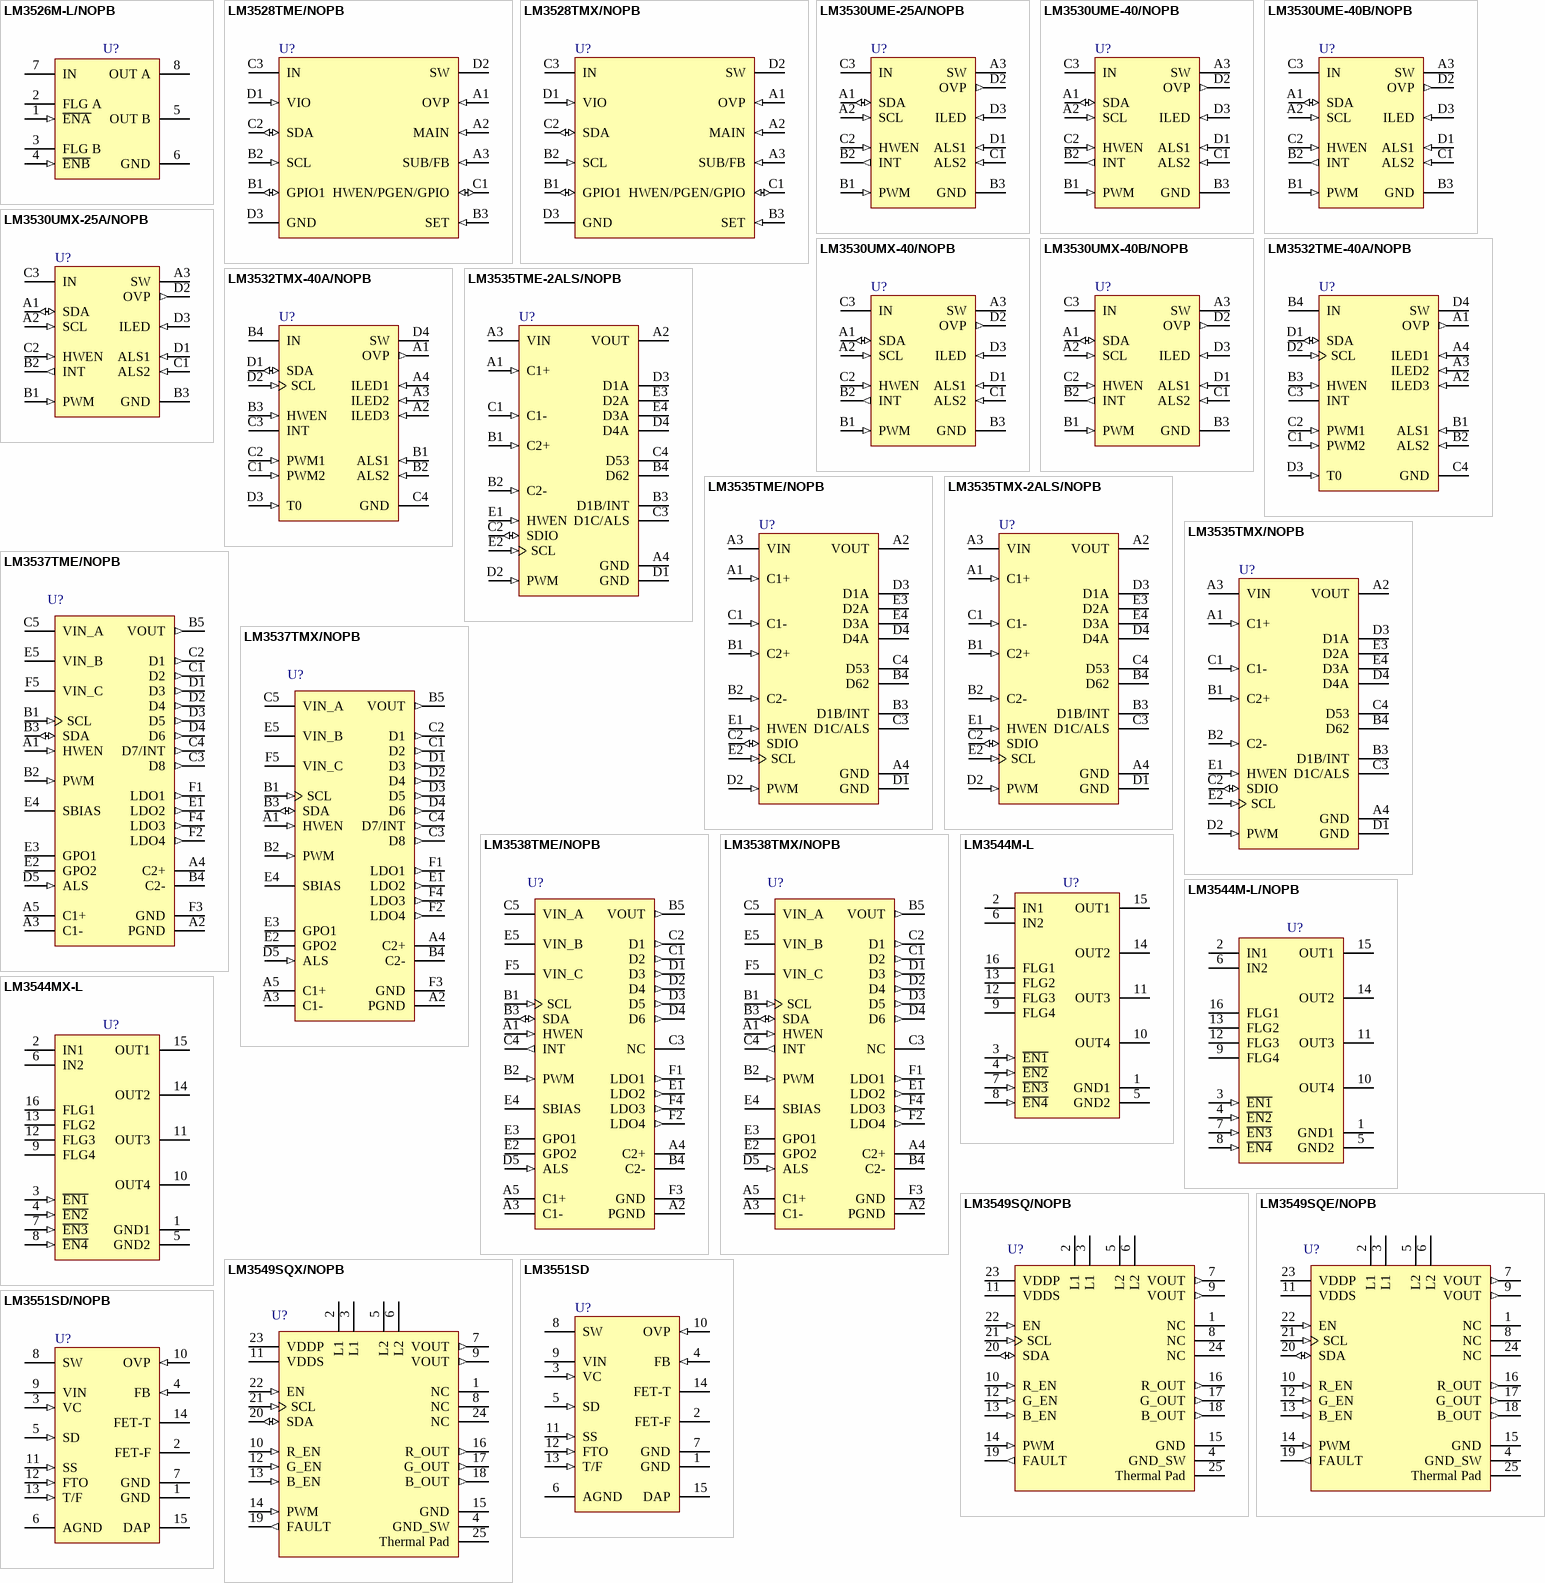
[diagram p17: symbols LM3526M-L/NOPB to LM3551SD/NOPB]

## LM3526M-L/NOPB
designator U?
Dual Port USB Power Switch and Over-current Protection, 8-pin Narrow SOIC, Pb-Free; PartNumber: LM3526M-L/NOPB; Manufacturer: National Semiconductor; PackageTopMarking: NSZXTT*3526*M-L; PowerWise: N; CompType: MiscPower; High-Reliability: Y; DatasheetVersion: Mar-2005; PackageVersion: revM, May-2009; PackageReference: M08A; PackageDescription: SOIC Narrow, 4.9 x 3.9 x 1.45mm, 8 Lead, 1.27mm Pitch; RoHS: Y; PinCount: 8; Code_JEDEC: MS-012-AA; Code_IPC: SOIC127P600-8; ComponentLink1Description: Manufacturer URL; ComponentLink1URL: http://www.national.com/; ComponentLink2Description: LM3526 Datasheet; ComponentLink2URL: http://www.national.com/ds/LM/LM3526.pdf; ComponentLink3Description: LM3526 Web Page; ComponentLink3URL: http://www.national.com/pf/LM/LM3526.html; ComponentLink4Description: M08A Package Page; ComponentLink4URL: http://www.national.com/packaging/folders/m08a.html
footprint M08A_N (SOIC, 8-Leads, Body 4.9x3.9mm, Pitch 1.27mm, IPC Medium Density)
footprint M08A_L (SOIC, 8-Leads, Body 4.9x3.9mm, Pitch 1.27mm, IPC High Density)
footprint M08A_M (SOIC, 8-Leads, Body 4.9x3.9mm, Pitch 1.27mm, IPC Low Density)
pins: 1 ~{ENA} (in), 2 FLG A (oc), 3 FLG B (oc), 4 ~{ENB} (in), 5 OUT B (power), 6 GND (power), 7 IN (power), 8 OUT A (power)

## LM3528TME/NOPB
designator U?
High Efficiency, Multi Display LED Driver with 128 Exponential Dimming Steps and Integrated OLED Power Supply, 12-pin 1.2x1.6mm Micro SMD, Pb-Free; PartNumber: LM3528TME/NOPB; Manufacturer: National Semiconductor; PackageTopMarking: XV*I SE; PowerWise: N; CompType: MiscPower; High-Reliability: Y; DatasheetVersion: Aug-2008; PackageVersion: revA, 2008; PackageReference: TMD12AAA; PackageDescription: Thin Micro SMD, 12 Bump, 0.4mm Pitch; RoHS: Y; PinCount: 12; ComponentLink1Description: Manufacturer URL; ComponentLink1URL: http://www.national.com/; ComponentLink2Description: LM3528 Datasheet; ComponentLink2URL: http://www.national.com/ds/LM/LM3528.pdf; ComponentLink3Description: LM3528 Web Page; ComponentLink3URL: http://www.national.com/pf/LM/LM3528.html; ComponentLink4Description: TMD12AAA Package Page; ComponentLink4URL: http://www.national.com/packaging/folders/tmd12aaa.html
footprint TMD12AAA (Micro SMD, 12-Leads, Body 1.62x1.22mm, Pitch 0.4mm, NSC Recommended)
pins: A1 OVP (in), A2 MAIN (in), A3 SUB/FB (in), B1 GPIO1 (io), B2 SCL (in), B3 SET (in), C1 HWEN/PGEN/GPIO (io), C2 SDA (io), C3 IN (power), D1 VIO (in), D2 SW (power), D3 GND (power)

## LM3528TMX/NOPB
designator U?
High Efficiency, Multi Display LED Driver with 128 Exponential Dimming Steps and Integrated OLED Power Supply, 12-pin 1.2x1.6mm Micro SMD, Pb-Free; PartNumber: LM3528TMX/NOPB; Manufacturer: National Semiconductor; PackageTopMarking: XV*I SE; PowerWise: N; CompType: MiscPower; High-Reliability: Y; DatasheetVersion: Aug-2008; PackageVersion: revA, 2008; PackageReference: TMD12AAA; PackageDescription: Thin Micro SMD, 12 Bump, 0.4mm Pitch; RoHS: Y; PinCount: 12; ComponentLink1Description: Manufacturer URL; ComponentLink1URL: http://www.national.com/; ComponentLink2Description: LM3528 Datasheet; ComponentLink2URL: http://www.national.com/ds/LM/LM3528.pdf; ComponentLink3Description: LM3528 Web Page; ComponentLink3URL: http://www.national.com/pf/LM/LM3528.html; ComponentLink4Description: TMD12AAA Package Page; ComponentLink4URL: http://www.national.com/packaging/folders/tmd12aaa.html
footprint TMD12AAA (Micro SMD, 12-Leads, Body 1.62x1.22mm, Pitch 0.4mm, NSC Recommended)
pins: A1 OVP (in), A2 MAIN (in), A3 SUB/FB (in), B1 GPIO1 (io), B2 SCL (in), B3 SET (in), C1 HWEN/PGEN/GPIO (io), C2 SDA (io), C3 IN (power), D1 VIO (in), D2 SW (power), D3 GND (power)

## LM3530UME-25A/NOPB
designator U?
High Efficiency White LED Driver with Programmable Ambient Light Sensing Capability and I2C Compatible Interface, 12-pin Micro SMD, 250 Reel; PartNumber: LM3530UME-25A/NOPB; Manufacturer: National Semiconductor; PackageTopMarking: XV*I DS; PowerWise: Y; CompType: MiscPower; DatasheetVersion: Aug-2011; PackageVersion: revA, Nov-2010; PackageReference: UMD12AAA; PackageDescription: Thin Micro SMD, 12 Bump, 0.4 mm Pitch; RoHS: Y; PinCount: 12; High-Reliability: Y; ComponentLink1Description: Manufacturer URL; ComponentLink1URL: http://www.national.com/; ComponentLink2Description: LM3530 Datasheet; ComponentLink2URL: http://www.national.com/ds/LM/LM3530.pdf; ComponentLink3Description: LM3530 Web Page; ComponentLink3URL: http://www.national.com/pf/LM/LM3530.html; ComponentLink4Description: UMD12AAA Package Page; ComponentLink4URL: http://www.national.com/packaging/folders/umd12aaa.html
footprint UMD12AAA (Micro SMD, 12-Leads, Body 1.62x1.22mm, Pitch 0.4mm, NSC Recommended)
pins: A1 SDA (io), A2 SCL (in), A3 SW, B1 PWM (in), B2 INT (out), B3 GND (power), C1 ALS2 (in), C2 HWEN (in), C3 IN (power), D1 ALS1 (in), D2 OVP (out), D3 ILED (in)

## LM3530UME-40/NOPB
designator U?
High Efficiency White LED Driver with Programmable Ambient Light Sensing Capability and I2C Compatible Interface, 12-pin Micro SMD, 250 Reel; PartNumber: LM3530UME-40/NOPB; Manufacturer: National Semiconductor; PackageTopMarking: XV*I 40; PowerWise: Y; CompType: MiscPower; DatasheetVersion: Aug-2011; PackageVersion: revA, Nov-2010; PackageReference: UMD12AAA; PackageDescription: Thin Micro SMD, 12 Bump, 0.4 mm Pitch; RoHS: Y; PinCount: 12; High-Reliability: Y; ComponentLink1Description: Manufacturer URL; ComponentLink1URL: http://www.national.com/; ComponentLink2Description: LM3530 Datasheet; ComponentLink2URL: http://www.national.com/ds/LM/LM3530.pdf; ComponentLink3Description: LM3530 Web Page; ComponentLink3URL: http://www.national.com/pf/LM/LM3530.html; ComponentLink4Description: UMD12AAA Package Page; ComponentLink4URL: http://www.national.com/packaging/folders/umd12aaa.html
footprint UMD12AAA (Micro SMD, 12-Leads, Body 1.62x1.22mm, Pitch 0.4mm, NSC Recommended)
pins: A1 SDA (io), A2 SCL (in), A3 SW, B1 PWM (in), B2 INT (out), B3 GND (power), C1 ALS2 (in), C2 HWEN (in), C3 IN (power), D1 ALS1 (in), D2 OVP (out), D3 ILED (in)

## LM3530UME-40B/NOPB
designator U?
High Efficiency White LED Driver with Programmable Ambient Light Sensing Capability and I2C Compatible Interface, 12-pin Micro SMD, 250 Reel; PartNumber: LM3530UME-40B/NOPB; Manufacturer: National Semiconductor; PackageTopMarking: XV*I DT; PowerWise: N; CompType: MiscPower; High-Reliability: Y; DatasheetVersion: Aug-2011; PackageVersion: revA, Nov-2010; PackageReference: UMD12AAA; PackageDescription: Thin Micro SMD, 12 Bump, 0.4 mm Pitch; RoHS: Y; PinCount: 12; ComponentLink1Description: Manufacturer URL; ComponentLink1URL: http://www.national.com/; ComponentLink2Description: LM3530 Datasheet; ComponentLink2URL: http://www.national.com/ds/LM/LM3530.pdf; ComponentLink3Description: LM3530 Web Page; ComponentLink3URL: http://www.national.com/pf/LM/LM3530.html; ComponentLink4Description: UMD12AAA Package Page; ComponentLink4URL: http://www.national.com/packaging/folders/umd12aaa.html
footprint UMD12AAA (Micro SMD, 12-Leads, Body 1.62x1.22mm, Pitch 0.4mm, NSC Recommended)
pins: A1 SDA (io), A2 SCL (in), A3 SW, B1 PWM (in), B2 INT (out), B3 GND (power), C1 ALS2 (in), C2 HWEN (in), C3 IN (power), D1 ALS1 (in), D2 OVP (out), D3 ILED (in)

## LM3530UMX-25A/NOPB
designator U?
High Efficiency White LED Driver with Programmable Ambient Light Sensing Capability and I2C Compatible Interface, 12-pin Micro SMD, 3000 Reel; PartNumber: LM3530UMX-25A/NOPB; Manufacturer: National Semiconductor; PackageTopMarking: XV*I DS; PowerWise: Y; CompType: MiscPower; DatasheetVersion: Aug-2011; PackageVersion: revA, Nov-2010; PackageReference: UMD12AAA; PackageDescription: Thin Micro SMD, 12 Bump, 0.4 mm Pitch; RoHS: Y; PinCount: 12; High-Reliability: Y; ComponentLink1Description: Manufacturer URL; ComponentLink1URL: http://www.national.com/; ComponentLink2Description: LM3530 Datasheet; ComponentLink2URL: http://www.national.com/ds/LM/LM3530.pdf; ComponentLink3Description: LM3530 Web Page; ComponentLink3URL: http://www.national.com/pf/LM/LM3530.html; ComponentLink4Description: UMD12AAA Package Page; ComponentLink4URL: http://www.national.com/packaging/folders/umd12aaa.html
footprint UMD12AAA (Micro SMD, 12-Leads, Body 1.62x1.22mm, Pitch 0.4mm, NSC Recommended)
pins: A1 SDA (io), A2 SCL (in), A3 SW, B1 PWM (in), B2 INT (out), B3 GND (power), C1 ALS2 (in), C2 HWEN (in), C3 IN (power), D1 ALS1 (in), D2 OVP (out), D3 ILED (in)

## LM3530UMX-40/NOPB
designator U?
High Efficiency White LED Driver with Programmable Ambient Light Sensing Capability and I2C Compatible Interface, 12-pin Micro SMD, 3000 Reel; PartNumber: LM3530UMX-40/NOPB; Manufacturer: National Semiconductor; PackageTopMarking: XV*I 40; PowerWise: Y; CompType: MiscPower; DatasheetVersion: Aug-2011; PackageVersion: revA, Nov-2010; PackageReference: UMD12AAA; PackageDescription: Thin Micro SMD, 12 Bump, 0.4 mm Pitch; RoHS: Y; PinCount: 12; High-Reliability: Y; ComponentLink1Description: Manufacturer URL; ComponentLink1URL: http://www.national.com/; ComponentLink2Description: LM3530 Datasheet; ComponentLink2URL: http://www.national.com/ds/LM/LM3530.pdf; ComponentLink3Description: LM3530 Web Page; ComponentLink3URL: http://www.national.com/pf/LM/LM3530.html; ComponentLink4Description: UMD12AAA Package Page; ComponentLink4URL: http://www.national.com/packaging/folders/umd12aaa.html
footprint UMD12AAA (Micro SMD, 12-Leads, Body 1.62x1.22mm, Pitch 0.4mm, NSC Recommended)
pins: A1 SDA (io), A2 SCL (in), A3 SW, B1 PWM (in), B2 INT (out), B3 GND (power), C1 ALS2 (in), C2 HWEN (in), C3 IN (power), D1 ALS1 (in), D2 OVP (out), D3 ILED (in)

## LM3530UMX-40B/NOPB
designator U?
High Efficiency White LED Driver with Programmable Ambient Light Sensing Capability and I2C Compatible Interface, 12-pin Micro SMD, 3000 Reel; PartNumber: LM3530UMX-40B/NOPB; Manufacturer: National Semiconductor; PackageTopMarking: XV*I DT; PowerWise: N; CompType: MiscPower; High-Reliability: Y; DatasheetVersion: Aug-2011; PackageVersion: revA, Nov-2010; PackageReference: UMD12AAA; PackageDescription: Thin Micro SMD, 12 Bump, 0.4 mm Pitch; RoHS: Y; PinCount: 12; ComponentLink1Description: Manufacturer URL; ComponentLink1URL: http://www.national.com/; ComponentLink2Description: LM3530 Datasheet; ComponentLink2URL: http://www.national.com/ds/LM/LM3530.pdf; ComponentLink3Description: LM3530 Web Page; ComponentLink3URL: http://www.national.com/pf/LM/LM3530.html; ComponentLink4Description: UMD12AAA Package Page; ComponentLink4URL: http://www.national.com/packaging/folders/umd12aaa.html
footprint UMD12AAA (Micro SMD, 12-Leads, Body 1.62x1.22mm, Pitch 0.4mm, NSC Recommended)
pins: A1 SDA (io), A2 SCL (in), A3 SW, B1 PWM (in), B2 INT (out), B3 GND (power), C1 ALS2 (in), C2 HWEN (in), C3 IN (power), D1 ALS1 (in), D2 OVP (out), D3 ILED (in)

## LM3532TME-40A/NOPB
designator U?
High Efficiency White LED Driver with Programmable Ambient Light Sensing Capability and I2C Compatible Interface, 16-pin Micro SMD, 250 Reel; PartNumber: LM3532TME-40A/NOPB; Manufacturer: National Semiconductor; PackageTopMarking: XYTT*I D34; PowerWise: N; CompType: MiscPower; High-Reliability: Y; DatasheetVersion: Aug-2011; PackageVersion: revA, Oct-2005; PackageReference: TMD16FKA; PackageDescription: Thin Micro SMD, 16 Bump, 1.84 x 1.74 x 0.60 mm Body, 0.4mm Pitch; RoHS: Y; PinCount: 16; ComponentLink1Description: Manufacturer URL; ComponentLink1URL: http://www.national.com/; ComponentLink2Description: LM3532 Datasheet; ComponentLink2URL: http://www.national.com/ds/LM/LM3532.pdf; ComponentLink3Description: LM3532 Web Page; ComponentLink3URL: http://www.national.com/pf/LM/LM3532.html; ComponentLink4Description: TMD16FKA Package Page; ComponentLink4URL: http://www.national.com/packaging/folders/tmd16fka.html
footprint TMD16FKA (Micro SMD, 16-Leads, Body 1.84x1.74mm, Pitch 0.4mm, NSC Recommended)
pins: A1 OVP (out), A2 ILED3 (in), A3 ILED2 (in), A4 ILED1 (in), B1 ALS1 (in), B2 ALS2 (in), B3 HWEN (in), B4 IN (power), C1 PWM2 (in), C2 PWM1 (in), C3 INT (oc), C4 GND (power), D1 SDA (io), D2 SCL (in), D3 T0 (in), D4 SW

## LM3532TMX-40A/NOPB
designator U?
High Efficiency White LED Driver with Programmable Ambient Light Sensing Capability and I2C Compatible Interface, 16-pin Micro SMD, 3000 Reel; PartNumber: LM3532TMX-40A/NOPB; Manufacturer: National Semiconductor; PackageTopMarking: XYTT*I D34; PowerWise: N; CompType: MiscPower; High-Reliability: Y; DatasheetVersion: Aug-2011; PackageVersion: revA, Oct-2005; PackageReference: TMD16FKA; PackageDescription: Thin Micro SMD, 16 Bump, 1.84 x 1.74 x 0.60 mm Body, 0.4mm Pitch; RoHS: Y; PinCount: 16; ComponentLink1Description: Manufacturer URL; ComponentLink1URL: http://www.national.com/; ComponentLink2Description: LM3532 Datasheet; ComponentLink2URL: http://www.national.com/ds/LM/LM3532.pdf; ComponentLink3Description: LM3532 Web Page; ComponentLink3URL: http://www.national.com/pf/LM/LM3532.html; ComponentLink4Description: TMD16FKA Package Page; ComponentLink4URL: http://www.national.com/packaging/folders/tmd16fka.html
footprint TMD16FKA (Micro SMD, 16-Leads, Body 1.84x1.74mm, Pitch 0.4mm, NSC Recommended)
pins: A1 OVP (out), A2 ILED3 (in), A3 ILED2 (in), A4 ILED1 (in), B1 ALS1 (in), B2 ALS2 (in), B3 HWEN (in), B4 IN (power), C1 PWM2 (in), C2 PWM1 (in), C3 INT (oc), C4 GND (power), D1 SDA (io), D2 SCL (in), D3 T0 (in), D4 SW

## LM3535TME-2ALS/NOPB
designator U?
Multi-Display LED Driver with Ambient Light Sensing and Dynamic Backlight Control Compatibility, 20 pin MICRO SMD; PartNumber: LM3535TME-2ALS/NOPB; Manufacturer: National Semiconductor; PackageTopMarking: XYTT*I 2ALS; PowerWise: N; CompType: MiscPower; High-Reliability: Y; DatasheetVersion: Aug-2010; PackageVersion: revD, 2007; PackageReference: TMD20AAA; PackageDescription: Thin Micro SMD, 20 Bump, 0.4mm Pitch; RoHS: Y; PinCount: 20; ComponentLink1Description: Manufacturer URL; ComponentLink1URL: http://www.national.com/; ComponentLink2Description: LM3535 Datasheet; ComponentLink2URL: http://www.national.com/ds/LM/LM3535.pdf; ComponentLink3Description: LM3535 Web Page; ComponentLink3URL: http://www.national.com/pf/LM/LM3535.html; ComponentLink4Description: TMD20AAA Package Page; ComponentLink4URL: http://www.national.com/packaging/folders/tmd20aaa.html
footprint TMD20AAA (Micro SMD, 20-Leads, Body 2.02x1.62mm, Pitch 0.4mm, NSC Recommended)
pins: A1 C1+ (in), A2 VOUT (power), A3 VIN (power), A4 GND (power), B1 C2+ (in), B2 C2- (in), B3 D1B/INT (oc), B4 D62 (oc), C1 C1- (in), C2 SDIO (io), C3 D1C/ALS (oc), C4 D53 (oc), D1 GND (power), D2 PWM (in), D3 D1A (oc), D4 D4A (oc), E1 HWEN (in), E2 SCL (in), E3 D2A (oc), E4 D3A (oc)

## LM3535TME/NOPB
designator U?
Multi-Display LED Driver with Ambient Light Sensing and Dynamic Backlight Control Compatibility, 20 pin MICRO SMD; PartNumber: LM3535TME/NOPB; Manufacturer: National Semiconductor; PackageTopMarking: XYTT*I 3535; PowerWise: N; CompType: MiscPower; High-Reliability: Y; DatasheetVersion: Aug-2010; PackageVersion: revD, 2007; PackageReference: TMD20AAA; PackageDescription: Thin Micro SMD, 20 Bump, 0.4mm Pitch; RoHS: Y; PinCount: 20; ComponentLink1Description: Manufacturer URL; ComponentLink1URL: http://www.national.com/; ComponentLink2Description: LM3535 Datasheet; ComponentLink2URL: http://www.national.com/ds/LM/LM3535.pdf; ComponentLink3Description: LM3535 Web Page; ComponentLink3URL: http://www.national.com/pf/LM/LM3535.html; ComponentLink4Description: TMD20AAA Package Page; ComponentLink4URL: http://www.national.com/packaging/folders/tmd20aaa.html
footprint TMD20AAA (Micro SMD, 20-Leads, Body 2.02x1.62mm, Pitch 0.4mm, NSC Recommended)
pins: A1 C1+ (in), A2 VOUT (power), A3 VIN (power), A4 GND (power), B1 C2+ (in), B2 C2- (in), B3 D1B/INT (oc), B4 D62 (oc), C1 C1- (in), C2 SDIO (io), C3 D1C/ALS (oc), C4 D53 (oc), D1 GND (power), D2 PWM (in), D3 D1A (oc), D4 D4A (oc), E1 HWEN (in), E2 SCL (in), E3 D2A (oc), E4 D3A (oc)